# EAGLE library part M2X5 (library Spark)
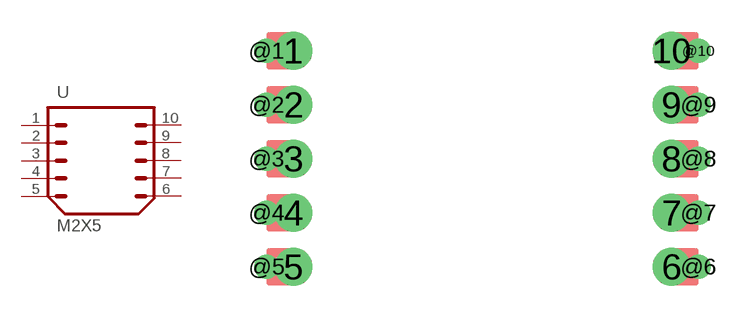
[diagram p17: symbol with the pads of 2X5-CASTELLATED; footprint 2X5-CASTELLATED]

Designator prefix -

## M2X5  [2X5-CASTELLATED]
1  1  pas
2  2  pas
3  3  pas
4  4  pas
5  5  pas
6  6  pas
7  7  pas
8  8  pas
9  9  pas
10  10  pas

## Footprint 2X5-CASTELLATED (pad centres in mm)
drill 1.016 pad 1.778: 1 0,0; 2 0,-2.54; 3 0,-5.08; 4 0,-7.62; 5 0,-10.16; 6 17.78,-10.16; 7 17.78,-7.62; 8 17.78,-5.08; 9 17.78,-2.54; 10 17.78,0
drill 0.635 pad 1.016: @1 -1.27,0; @2 -1.27,-2.54; @3 -1.27,-5.08; @4 -1.27,-7.62; @5 -1.27,-10.16; @6 19.05,-10.16; @7 19.05,-7.62; @8 19.05,-5.08; @9 19.05,-2.54; @10 19.05,0